# Altium schematic symbol library inductors.SchLib: 27 symbols
Pins are listed as number, name and electrical type; pins without a type are passive.

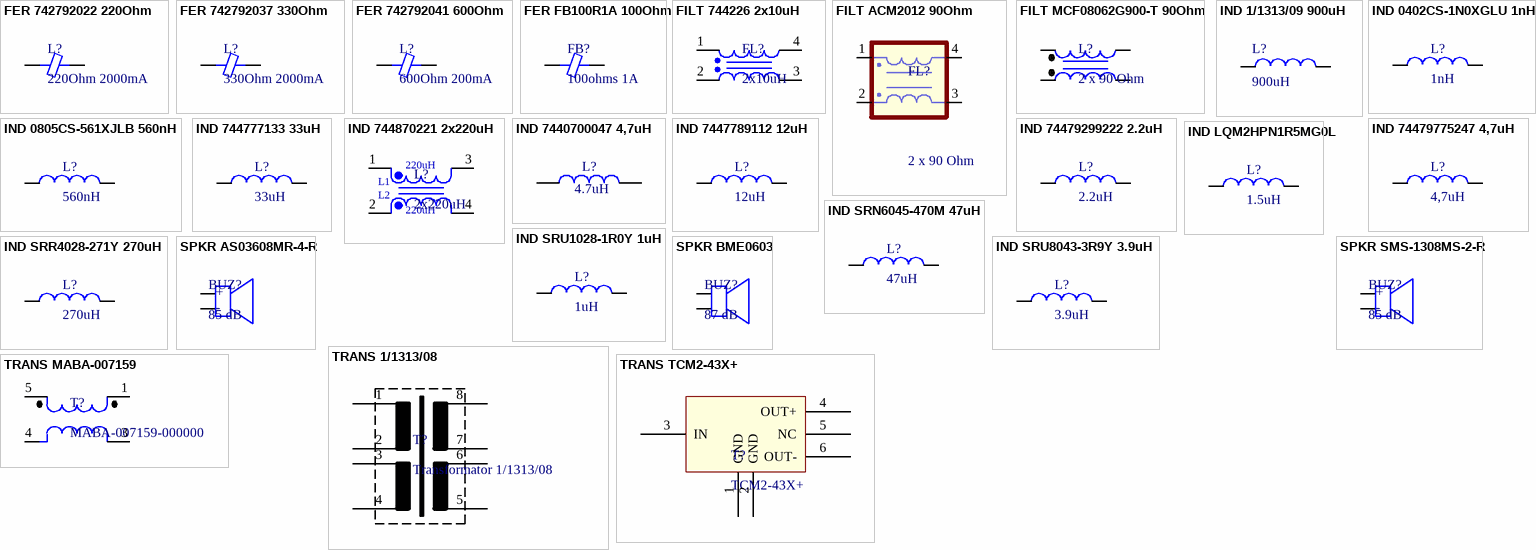
[diagram p0: symbols FER 742792022 220Ohm to TRANS TCM2-43X+]

## FER 742792022 220Ohm
designator L?, comment 220Ohm 2000mA
Ferritperle WE-CBF 0805 SMD Bead 100MHz 220Ohm 2000mA; Manufacturer: Würth Elektronik; Manufacturer Part Number: 742792022; Value: 220Ohm 2A; Created by: Nils Minor
footprint FER 0805/2012 (Chip Ferrite, 2-Leads, Body 2.00x1.20mm, IPC Medium Density)
pins: 1, 2

## FER 742792037 330Ohm
designator L?, comment 330Ohm 2000mA
Ferritperle WE-CBF 0805 SMD Bead 100MHz 330Ohm 2000mA; Manufacturer: Würth Elektronik; Manufacturer Part Number: 742792037; Value: 330Ohm 2A; Created by: Nils Minor
footprint FER 0805/2012 (Chip Ferrite, 2-Leads, Body 2.00x1.20mm, IPC Medium Density)
pins: 1, 2

## FER 742792041 600Ohm
designator L?, comment 600Ohm 200mA
Ferritperle WE-CBF 0805 SMD Bead 100MHz 600Ohm 200mA; Manufacturer: Würth Elektronik; Manufacturer Part Number: 742792041; Created by: Nils Minor; Value: 600Ohm 200mA
footprint FER 0805/2012 (Chip Ferrite, 2-Leads, Body 2.00x1.20mm, IPC Medium Density)
pins: 1, 2

## FER FB100R1A 100Ohm
designator FB?, comment 100ohms 1A
Ferritperle 100ohms 1A 60mOhms 0603 Ferrite Chip; Manufacturer: TDK; Manufacturer Part Number: MPZ1608D101BTA00; Created by: Nils Minor; Value: 100ohms 1A
footprint FER 0603/1608 (Chip Ferrite, 2-Leads, Body 1.60x0.80mm, IPC Medium Density)
pins: 1, 2

## FILT 744226 2x10uH
designator FL?, comment 2x10uH
WE-SL2 SMD Common Mode Line Filter, 2x10uH; Manufacturer: Würth Elektronik; Manufacturer Part Number: 744226; Created by: Nils Minor; Value: 2x10uH
footprint WE-SL2 (SMD Inductor, 4-Leads, Body 9.2x6.0mm)
pins: 1, 2, 3, 4

## FILT ACM2012 90Ohm
designator FL?, comment 2 x 90 Ohm
Gleichtaktdrosseln / Filter 90ohms 190mohms 400A AEC-Q200 ideal für USB 2.0; Manufacturer: TDK; Manufacturer Part Number: ACM2012-900-2P-T001; Created by: Nils Minor; Value: 2 x 90 Ohm
footprint ACM2012-900-2P (EMI Filter Beads, Chips & Arrays_____http://de.mouser.com/ProductDetail/TDK/ACM2012-900-2P-T002/?qs=vhEaPADELPHXWaCJFQVZjQ==)
pins: 1 L1, 2 L2, 3 L3, 4 L4

## FILT MCF08062G900-T 90Ohm
designator L?, comment 2 x 90 Ohm
Gleichtaktdrosseln / Filter COMMON MODE CHOKE 2 LINE USB 2.0; Manufacturer: Taiyo Yuden; Manufacturer Part Number: MCF08062G900-T; Value: 100 mA 6.5 Ohms; Created by: Nils Minor
footprint MCF08062G900-T
pins: 1, 2, 3, 4

## IND 1/1313/09 900uH
designator L?, comment 900uH
Drossel 900uH; Manufacturer: DSW Elektronik; Manufacturer Part Number: 1/1313/09; Created by: Nils Minor; Value: 900uH
footprint IND_PH
footprint DSV transformer
pins: 1, 2

## IND 0402CS-1N0XGLU 1nH
designator L?, comment 1nH
Festinduktivität 1nH SMD 0402; Manufacturer: Coilcraft; Manufacturer Part Number: 0402CS-1N0XGLU; Created by: Nils Minor; Value: 1nH
footprint FER 0402/1005 (Chip Ferrite, 2-Leads, Body 1.02x0.51mm, IPC Medium Density)
pins: 1, 2

## IND 0805CS-561XJLB 560nH
designator L?, comment 560nH
Festinduktivität 560nH SMD 0805; Manufacturer: Coilcraft; Manufacturer Part Number: 0805CS-561XJLB; Created by: Nils Minor; Value: 560nH
footprint FER 0805/2012 (Chip Ferrite, 2-Leads, Body 2.00x1.20mm, IPC Medium Density)
pins: 1, 2

## IND 744777133 33uH
designator L?, comment 33uH
WE-PD SMD Shielded Power Inductor, size 7345, 33uH, 1.13A; Manufacturer: Würth Elektronik; Manufacturer Part Number: 744777133; Created by: Nils Minor; Value: 33uH
footprint WE-PD_7345_Metal Base (SMD Inductor, 2-Leads, Body 7.3x7.3mm)
pins: 1, 2

## IND 744870221 2x220uH
designator L?, comment 2x220uH
WE-DD SMD Shielded Coupled Inductor, size 1280, 220/220uH; Manufacturer: Würth Elektronik; Manufacturer Part Number: 744870221; Created by: Nils Minor; Value: 2x220uH
footprint WE-DD_1280_crossed (SMD Shielded Coupled Inductor, body 12.5x12.5mm)
pins: 1, 2, 3, 4
text: 220uH; L1; L2

## IND 7440700047 4,7uH
designator L?, comment value 4.7uH  (hidden comment: 4,7uH)
WE-TPC SMD Shielded Tiny Power Inductor, size 8020, 3A, 37mΩ, 4.7uH; Manufacturer: Würth Elektronik; Manufacturer Part Number: 7440700047
footprint WE-TPC_8020
pins: 1, 3

## IND 7447789112 12uH
designator L?, comment 12uH
WE-PD SMD Shielded Power Inductor, size 7332, 12uH, 1.73A; Manufacturer: Würth Elektronik; Manufacturer Part Number: 7447789112; Value: 12uH 1.73A; Created by: Nils Minor
footprint WE-PD_7332_Plastic Base (SMD Inductor, 2-Leads, Body 7.3x7.3mm)
pins: 1, 2

## IND 74479299222 2.2uH
designator L?, comment 2.2uH
Festinduktivitäten WE-PMCI 1210 2.2uH 2.1A 85mOhms 30%Tol; Manufacturer: Würth Elektronik; Manufacturer Part Number: 74479299222; Created by: Nils Minor; Value: 2.2uH
footprint STACKPOLE CSR1210 (Chip Resistor, 2-Leads, Body 3.1x2.6mm, IPC Medium Density)
pins: 1, 2

## IND 74479775247 4,7uH
designator L?, comment 4,7uH
Multilayer Induktivität 4,7uH 700mA; Manufacturer: Würth Elektronik; Manufacturer Part Number: 74479775247; Created by: Nils Minor; Value: 4,7uH
footprint 74479775xxx_0805 (WE-PMI Power Multilayer Inductor, size 0805LR)
pins: 1, 2

## IND LQM2HPN1R5MG0L
designator L?, comment 1.5uH
Festinduktivität 1.5uH 1.5A 70mOhm SMD; Manufacturer: Murata; Manufacturer Part Number: LQM2HPN1R5MG0L; Created by: Nils Minor; Value: 1.5uH
footprint LQM2HPN1R5MG0L
pins: 1, 2

## IND SRN6045-470M 47uH
designator L?, comment 47uH
Fixed Inductors 47uH 20% SMD 6045; Manufacturer: Bourns; Manufacturer Part Number: SRN6045-470M; Created by: Nils Minor; Value: 47uH
footprint SRN6045-470M
pins: 1, 2

## IND SRR4028-271Y 270uH
designator L?, comment 270uH
Festinduktivitäten 270uH 30% SMD 4028; Manufacturer: Bourns; Manufacturer Part Number: SRR4028-271Y; Created by: Nils Minor; Value: 270uH
footprint SRR4028
pins: 1, 2

## IND SRU1028-1R0Y 1uH
designator L?, comment 1uH
Festinduktivitäten 1uH 30% SMD 1028; Manufacturer: Bourns; Manufacturer Part Number: SRU1028-1R0Y; Created by: Nils Minor; Value: 1uH
footprint SRU1028-1R0Y
pins: 1, 2

## IND SRU8043-3R9Y 3.9uH
designator L?, comment 3.9uH
Fixed Inductors 3.9uH 30% SMD 8043; Manufacturer: Bourns; Manufacturer Part Number: SRU8043-3R9Y; Created by: Nils Minor; Value: 3.9uH
footprint SRU8043-3R9Y
pins: 1, 2

## SPKR AS03608MR-4-R
designator BUZ?, comment 85 dB
SPEAKER 8OHM 800MW TOP PORT 85DB; Manufacturer Part Number: AS03608MR-4-R; Created by: Nils Minor; Value: 85 dB
footprint AS03608MR-4-R
pins: 1, 2
text: +; -

## SPKR BME0603
designator BUZ?, comment 87 dB
SMD-Signalgeber, 12 V, 120 mA, 2,4 V / Nennspannung: 12 V min. Betriebsspannung: 2,4 V max. Betriebsspannung: 4,5 V; Manufacturer: GREWUS; Manufacturer Part Number: BME0603SB; Created by: Nils Minor; Value: 87 dB
footprint BME0603
pins: 1, 2

## SPKR SMS-1308MS-2-R
designator BUZ?, comment 85 dB
SPEAKER 8OHM 700MW TOP PORT 88DB; Manufacturer Part Number: SMS-1308MS-2-R; Created by: Nils Minor; Value: 88 dB
footprint SMS-1308MS-2-R (Footprint not found)
pins: 1 +, 2
text: -

## TRANS 1/1313/08
designator T?, comment Transformator 1/1313/08
Transformator 220V/110V/100V/16V; Manufacturer: DSW Elektronik; Created by: Nils Minor; Manufacturer Part Number: 1/1313/08
footprint Transformator 1/1313/08
pins: 1, 2, 3, 4, 5, 6, 7, 8

## TRANS MABA-007159
designator T?, comment MABA-007159-000000
Audio-Transformatoren / Signal-Transformatoren 4.5-3000MHz IL 2dB Impedance Ratio 1:1; Manufacturer: MACOM; Manufacturer Part Number: MABA-007159-000000; Created by: Nils Minor
footprint ETC1
pins: 1, 3, 4, 5

## TRANS TCM2-43X+
designator T?, comment TCM2-43X+
RF Transformer 50Ohm 10 - 4000MHz; Manufacturer: minicircuits; Manufacturer Part Number: TCM2-43X+; Created by: Nils Minor
footprint TCM2-43X+
pins: 1 GND, 2 GND, 3 IN, 4 OUT+, 5 NC, 6 OUT-